# Altium schematic symbol library Header.SchLib: 1 symbol
Pins are listed as number, name and electrical type; pins without a type are passive.

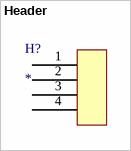
[diagram p0: symbol Header]

## Header
designator H?
footprint Header 1x4 male (2.54mm)
pins: 1, 2, 3, 4